# Altium footprint library LIBRERIAPROYECTO.PcbLib: 10 footprints
Each footprint in its own frame and in the unit in brackets; x right, y up, seen from the top. Pads: shape width x height; smd on the part's side, far side on the other; paste and mask are expansions set on the pad; w line width, h text height; cw(c..) or ccw(c..) is an arc to the next point about the centre after c.
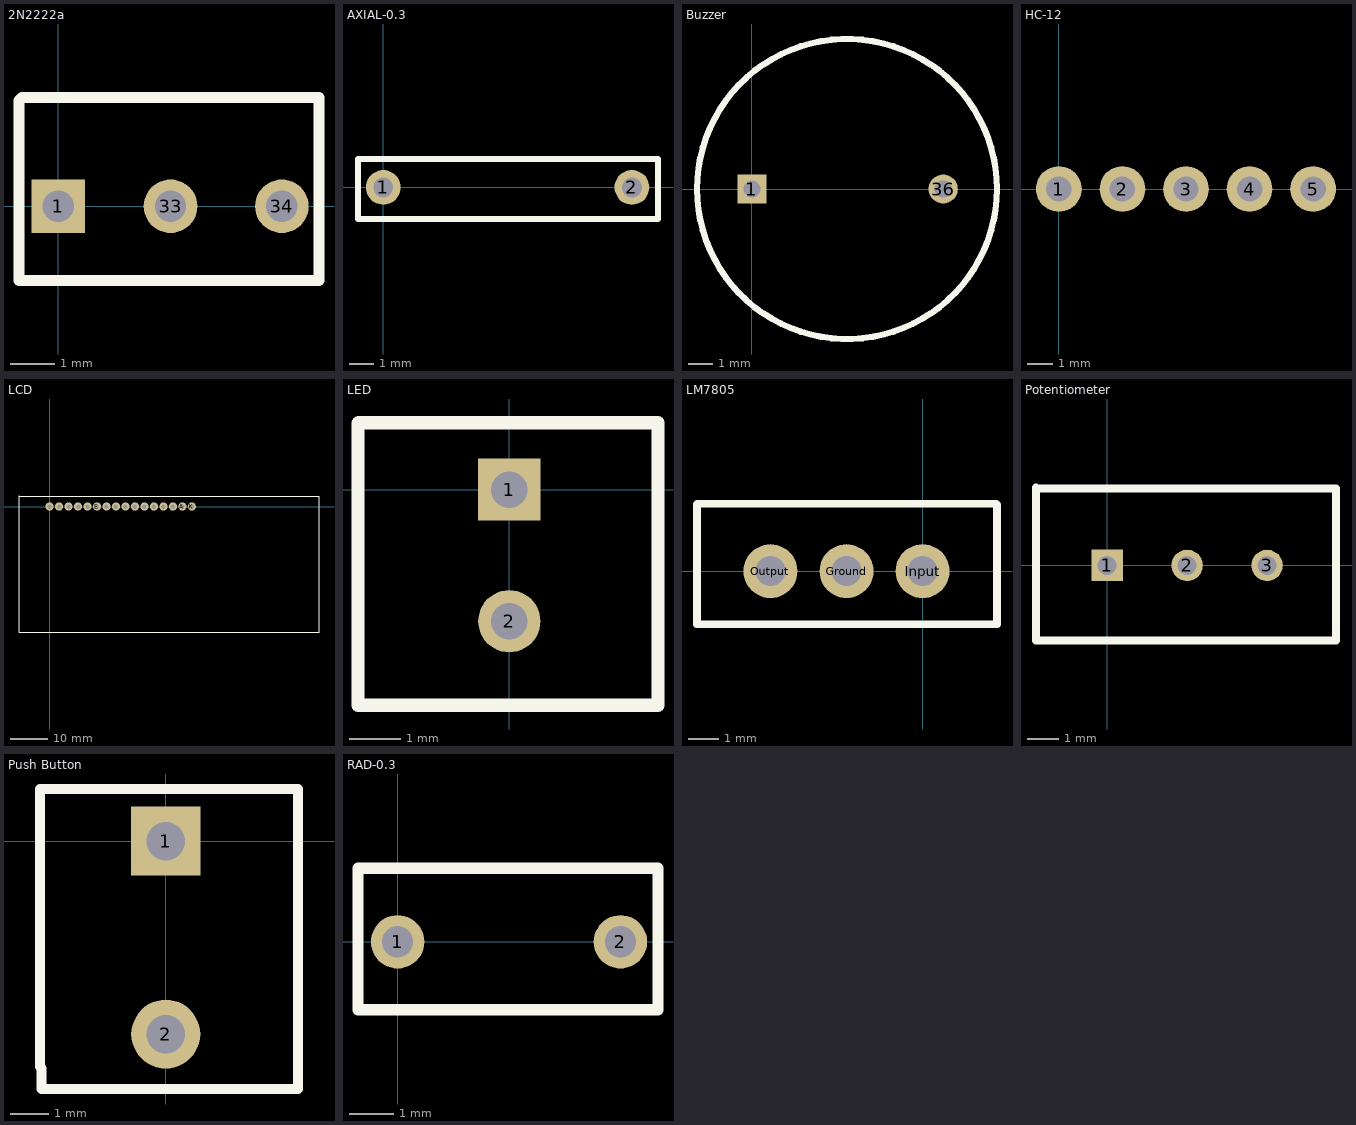
[diagram p0: the footprints below, top view; thin cyan lines are the x and y axes]

## 2N2222a [mm] "Transistor"
pads (3):
  rect 1.2x1.2 hole 0.7: 1(0,0)
  round 1.2 hole 0.7: 33(2.51,0) 34(5,0)
Top Overlay:
  lines w0.254: -0.88,-1.66 5.83,-1.66 5.83,2.43 -0.81,2.43 -0.88,2.36 -0.88,-1.66
3D body "Transistor.stp": height 8.25, standoff -29.75, extent -0.24,-1.53 5.26,2.27

## AXIAL-0.3 [mm] "Axial Device, Thru-Hole; 2 Leads; 0.3 in Pin Spacing"
height 1.524
pads (2):
  round 1.4 hole 0.8: 1(0,0) 2(10,0)
Top Overlay:
  lines w0.254: -1.016,-1.27 11.049,-1.27 11.049,1.143 -1.016,1.143 -1.016,-1.27
3D body "Resistor.STEP": height 2.15, standoff -2, extent -0.402,-1.15 10.308,1.15

## Buzzer [mm] "3.5-12V"
pads (2):
  rect 1.2x1.2 hole 0.7: 1(0,0)
  round 1.2 hole 0.7: 36(7.85,0)
Top Overlay:
  circle w0.254: c3.9,0 r6.156
3D body "Buzzer_Active.stp": height 9.6, standoff -2.6, extent -2,-5.925 9.85,5.925
3D body: height 1.5, standoff 0, extent 0,0 0,0
3D body: height 1.5, standoff 0, extent 0,0 0,0
3D body: height 1.5, standoff 0, extent 0,0 0,0

## HC-12 [mm] "RF module"
pads (5):
  round 1.8 hole 1: 1(0,0) 2(2.5,0) 3(5,0) 4(7.5,0) 5(10,0)
3D body "HC-12 SI4463 WIRELESS SERIAL MODULE.STEP": height 25.91, standoff 0.01, extent -1.66,-26.378 11.64,1.32

## LCD [mm] "LCD 16x2"
pads (16):
  round 2.2 hole 1.2: A(35.56,0) D0(15.24,0) D1(17.78,0) D2(20.32,0) D3(22.86,0) D4(25.4,0) D5(27.94,0) D6(30.48,0) D7(33.02,0) E(12.7,0) K(38.1,0) RS(7.62,0) RW(10.16,0) V0(5.08,0) VDD(2.54,0) VSS(0,0)
Top Overlay:
  lines w0.254: -8.17,2.83 -8.17,-33.59 72.1,-33.59 72.1,2.58 72.1,2.7 -8.04,2.7
3D body "LCD_16x2.stp": height 11.6, standoff 0.1, extent -7.98,-33.51 72.02,2.49

## LED [mm] "LED"
pads (2):
  rect 1.2x1.2 hole 0.7: 1(0,0)
  round 1.2 hole 0.7: 2(0,-2.54)
Top Overlay:
  lines w0.254: -2.92,1.28 -2.92,-4.16 2.87,-4.16 2.87,1.29 -2.91,1.29
3D body "LTL2T3TGK6.stp": height 9.2, standoff -21, extent -2.9,-4.13 2.9,1.27

## LM7805 [mm] "Voltage Regulator"
pads (3):
  round 1.8 hole 1: Ground(-2.54,0) Input(0,0) Output(-5.08,0)
Top Overlay:
  lines w0.254: -7.53,2.24 -7.53,-1.77 2.48,-1.77 2.48,2.22 2.45,2.25 -7.52,2.25
3D body "7508.STEP": height 20, standoff -8.2, extent -7.5,-1.79 2.5,2.22

## Potentiometer [mm] "10k Ohm"
pads (3):
  rect 1x1 hole 0.6: 1(0,0)
  round 1 hole 0.6: 2(2.54,0) 3(5.08,0)
Top Overlay:
  lines w0.254: -2.26,2.47 -2.26,-2.38 7.27,-2.38 7.27,2.44 -2.23,2.44
3D body "Trimpot_3296W.STEP": height 11.55, standoff -2.6, extent -2.215,-2.405 7.315,2.425
3D body: height 1.5, standoff 0, extent 2.55,-0.3 2.55,-0.3

## Push Button [mm] "Push button 2 PIN"
pads (2):
  rect 1.8x1.8 hole 1: 1(0,0)
  round 1.8 hole 1: 2(0,-5.03)
Top Overlay:
  lines w0.254: -3.28,-5.88 -3.28,1.36 3.45,1.36 3.45,-6.46 -3.24,-6.46 -3.24,-5.92
3D body "82574 tact switch.stp": height 5, standoff -5.08, extent -3.115,-5.637 3.115,0.598

## RAD-0.3 [mm] "Radial Cap, Thru-Hole; 2 Leads; 0.3 in Pin Spacing"
height 6
pads (2):
  round 1.2 hole 0.7: 1(0,0) 2(5,0)
Top Overlay:
  lines w0.254: -0.889,-1.524 -0.889,1.651 5.842,1.651 5.842,-1.524 -0.889,-1.524
3D body: height 1.25, standoff -1.25, extent -4.191,4.318 -4.191,4.318
3D body: height 1.25, standoff -1.25, extent -4.064,2.921 -4.064,2.921
3D body: height 1.25, standoff -1.25, extent -2.794,4.191 -2.794,4.191
3D body "CAP_DISC_4x3_YL.stp": height 4.47, standoff -3, extent -0.185,-1.476 5.265,1.524